# EAGLE library part ST-TR1100PN (library SHC)
ST-TR1100PN is an FSK Transceiver module,which is a true single-chip UHF transceiver, It base on 3 wire digital serial interface and an entire Phase-Locked Loop (PLL) for precise local oscillator generation. so the frequency could be setting. ST-TR1100PN is mainly developed by the Chipcon IC(CC1100) and added the PA & LNA circuit to the module and can be with a long working distance. It can be used on wireless security system or specific remote-control function and others wireless system
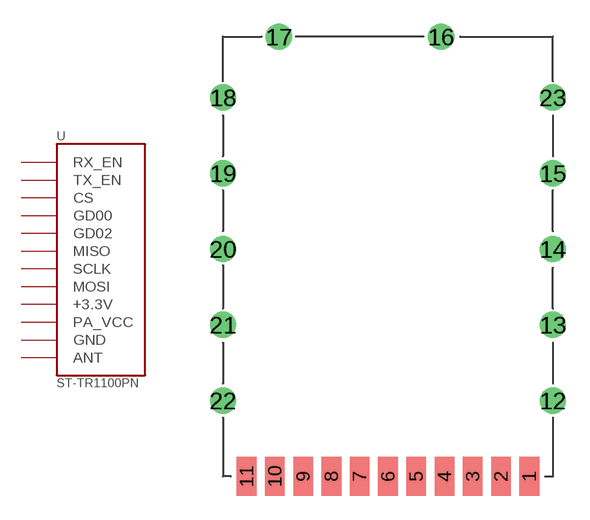
[diagram p24: symbol with the pads of ST-TR1100PN; footprint ST-TR1100PN]

Designator prefix -

## ST-TR1100PN  [ST-TR1100PN]
1  RX_EN
2  TX_EN
3  CS
4  GD00
5  GD02
6  MISO
7  SCLK
8  MOSI
9  +3.3V
10  PA_VCC
11  GND
12  GND
13  GND
14  GND
15  GND
16  GND
17  GND
18  GND
19  GND
20  GND
21  GND
22  GND
23  ANT

## Footprint ST-TR1100PN (pad centres in mm)
smd 1.25 x 2.5: 1 9,-14; 2 7.2,-14; 3 5.4,-14; 4 3.6,-14; 5 1.8,-14; 6 0,-14; 7 -1.8,-14; 8 -3.6,-14; 9 -5.4,-14; 10 -7.2,-14; 11 -9,-14
drill 0.8 pad 1.676: 12 10.5,-9.174; 13 10.5,-4.348; 14 10.5,0.478; 15 10.5,5.304; 16 3.388,14; 17 -6.944,14; 18 -10.5,10.13; 19 -10.5,5.304; 20 -10.5,0.478; 21 -10.5,-4.348; 22 -10.5,-9.174; 23 10.5,10.13